# Altium schematic symbol library Miscellaneous.SchLib: 57 symbols
Pins are listed as number, name and electrical type; pins without a type are passive.

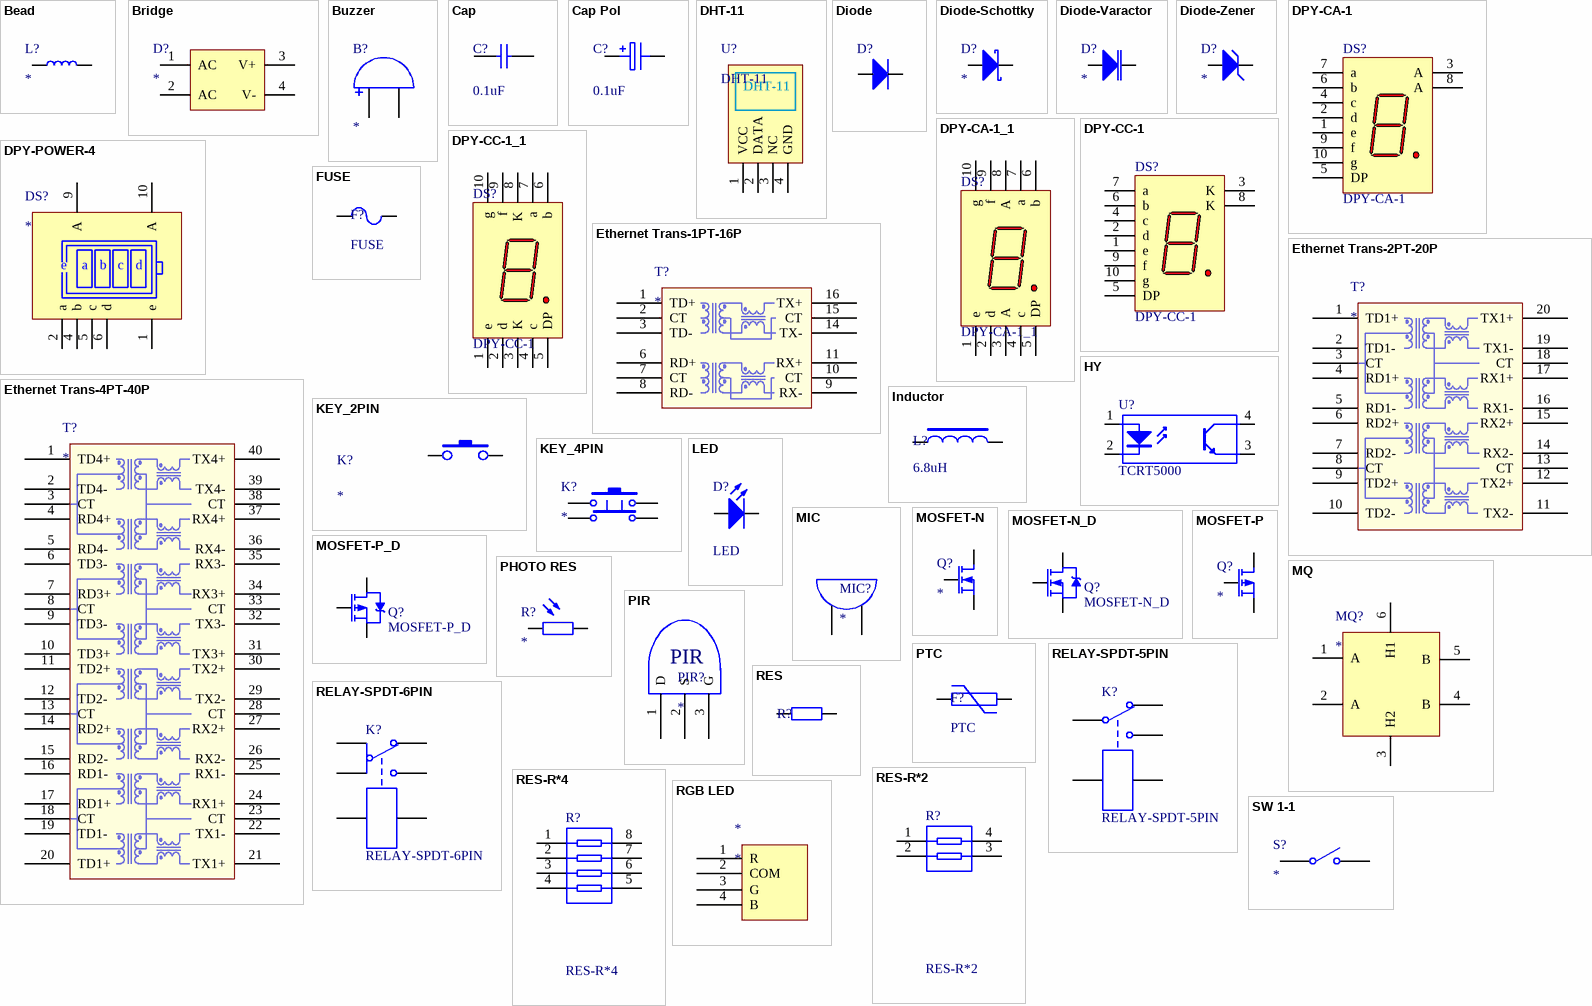
[diagram p0: symbols Bead to SW 1-1]

## Bead
designator L?
Bead
footprint L0603
footprint L0805
pins: 1, 2

## Bridge
designator D?
rectifier bridge
footprint bridge-BR8 (Bridge Rectifier; 4 Terminals; Body 9.4 x 9.4 mm (typ); Pitch 5.08 mm)
pins: 1 AC, 2 AC, 3 V+, 4 V-

## Buzzer
designator B?
buzzer
footprint BUZZER-6.5-12*9.6-0.8
pins: 1, 2
text: +

## Cap
designator C?, comment 0.1uF
Capacitor; Published: 8-Jun-2000; LatestRevisionDate: 17-Jul-2002; LatestRevisionNote: Re-released for DXP Platform.; PackageReference: RAD-0.3; Publisher: Altium Limited; Value: 0.1uF
footprint C0603
footprint C0805
footprint C1206
footprint C0402
footprint C1210
footprint C0201
footprint C1806
footprint C1808
footprint C1812
footprint C1825
footprint C2010
footprint C2220
footprint C2225
footprint C2512
pins: 1, 2

## Cap Pol
designator C?, comment 0.1uF
Polarized Capacitor; Value: 22uF/25V; Published: 8-Jun-2000; LatestRevisionDate: 17-Jul-2002; LatestRevisionNote: Re-released for DXP Platform.; PackageReference: RB7.6-15; Publisher: Altium Limited
footprint CAP-TA-3216A
footprint CAP-TA-3528b
footprint CAP-TA-6032c
footprint CAP-TA-7343D
footprint CAP-TA-7343E
footprint CAPPR2.0-5X8-0.6
footprint CAPPR2.5-6.3X11-0.5
footprint CAPPR5.0-8.0X11-0.8
footprint CAPPR5.0-10X16-0.8
footprint CAPPR-4.3X4.3-SM
footprint CAPPR-6.6X6.6-SM
footprint CAPPR-10X10-SM
footprint CAPPR2.0-5X11-0.6
footprint CAPPR5.0-10X12.5-0.8
footprint CAPPR5.0-10X20-0.8
pins: 1, 2

## DHT-11
designator U?
footprint DHT-11
pins: 1 VCC, 2 DATA, 3 NC, 4 GND

## Diode
designator D?
Diode
footprint DIODE-0.4 (Diode, Thru-Hole; 2 Leads; 0.4 in Pin Spacing)
footprint DIODE-SMA (DO-214AC)
footprint DIODE-SMB
footprint DIODE-SMC
footprint DIODE-LL34
footprint SOD-123
footprint SOD-323
pins: 1, 2

## Diode-Schottky
designator D?
Schottky Diode
footprint DIODE-SMA (DO-214AC)
footprint DIODE-SMB
footprint DIODE-SMC
footprint SOD-123
pins: 1 A, 2 K

## Diode-Varactor
designator D?
pins: 1 ANODE, 2 CATHODE

## Diode-Zener
designator D?
footprint SOT-23-3; pin to pad 2>3
pins: 1 ANODE, 2 CATHODE

## DPY-CA-1
designator DS?
MinimumIntensity: 354 ucd; Note: IF = 5 mA; Colour: Orange; Note: Pins 1 and 6 are redundant Anodes.; Published: 8-Jun-2000; LatestRevisionDate: 17-Dec-2003; LatestRevisionNote: Schematic revised, PCB Footprint replaced.; DatasheetVersion: 19-Feb-2002; PackageVersion: 11-Feb-2002; PackageReference: A; Publisher: Altium Limited; PackageDescription: LED, 7-Segment Display, 7.62 mm, RHD; 10 Leads; Row Space 5.08 mm; Pitch 2.54 mm; ComponentLink1Description: Manufacturer Link; ComponentLink1URL: http://www.agilent.com/
pins: 1 e "Cathode", 2 d "Cathode", 3 A "Anode", 4 c "Cathode", 5 DP "Cathode", 6 b "Cathode", 7 a "Cathode", 8 A "Anode", 9 f "Cathode", 10 g "Cathode"

## DPY-CA-1_1
designator DS?
MinimumIntensity: 354 ucd; Note: IF = 5 mA; Colour: Orange; Note: Pins 1 and 6 are redundant Cathodes.; Published: 8-Jun-2000; LatestRevisionDate: 17-Dec-2003; LatestRevisionNote: Schematic revised, PCB Footprint replaced.; DatasheetVersion: 19-Feb-2002; PackageVersion: 11-Feb-2002; PackageReference: A; Publisher: Altium Limited; PackageDescription: LED, 7-Segment Display, 7.62 mm, RHD; 10 Leads; Row Space 5.08 mm; Pitch 2.54 mm; ComponentLink1Description: Manufacturer Link; ComponentLink1URL: http://www.agilent.com/
footprint DPY-1.0
pins: 1 e, 2 d, 3 A, 4 c, 5 DP, 6 b, 7 a, 8 A, 9 f, 10 g

## DPY-CC-1
designator DS?
MinimumIntensity: 354 ucd; Note: IF = 5 mA; Colour: Orange; Note: Pins 1 and 6 are redundant Cathodes.; Published: 8-Jun-2000; LatestRevisionDate: 17-Dec-2003; LatestRevisionNote: Schematic revised, PCB Footprint replaced.; DatasheetVersion: 19-Feb-2002; PackageVersion: 11-Feb-2002; PackageReference: A; Publisher: Altium Limited; PackageDescription: LED, 7-Segment Display, 7.62 mm, RHD; 10 Leads; Row Space 5.08 mm; Pitch 2.54 mm; ComponentLink1Description: Manufacturer Link; ComponentLink1URL: http://www.agilent.com/
pins: 1 e "Anode", 2 d "Anode", 3 K "Cathode", 4 c "Anode", 5 DP "Anode", 6 b "Anode", 7 a "Anode", 8 K "Cathode", 9 f "Anode", 10 g "Anode"

## DPY-CC-1_1
designator DS?, comment DPY-CC-1
MinimumIntensity: 354 ucd; Note: IF = 5 mA; Colour: Orange; Note: Pins 1 and 6 are redundant Cathodes.; Published: 8-Jun-2000; LatestRevisionDate: 17-Dec-2003; LatestRevisionNote: Schematic revised, PCB Footprint replaced.; DatasheetVersion: 19-Feb-2002; PackageVersion: 11-Feb-2002; PackageReference: A; Publisher: Altium Limited; PackageDescription: LED, 7-Segment Display, 7.62 mm, RHD; 10 Leads; Row Space 5.08 mm; Pitch 2.54 mm; ComponentLink1Description: Manufacturer Link; ComponentLink1URL: http://www.agilent.com/
footprint DPY-1.0
pins: 1 e, 2 d, 3 K, 4 c, 5 DP, 6 b, 7 a, 8 K, 9 f, 10 g

## DPY-POWER-4
designator DS?
footprint DPY-POWER-4
pins: 1 e, 2 a, 4 b, 5 c, 6 d, 9 A, 10 A

## Ethernet Trans-1PT-16P
designator T?
footprint NET-TRANS_SMD-16_7*12.7*1.27P
footprint NET-TRANS_DIP-16_10*20.3*2.54P
pins: 1 TD+, 2 CT, 3 TD-, 4 NC hidden, 5 NC hidden, 6 RD+, 7 CT, 8 RD-, 9 RX-, 10 CT, 11 RX+, 12 NC hidden, 13 NC hidden, 14 TX-, 15 CT, 16 TX+

## Ethernet Trans-2PT-20P
designator T?
footprint NET-TRANS_DIP-20_10*25.5*2.54P
pins: 1 TD1+, 2 TD1-, 3 CT, 4 RD1+, 5 RD1-, 6 RD2+, 7 RD2-, 8 CT, 9 TD2+, 10 TD2-, 11 TX2-, 12 TX2+, 13 CT, 14 RX2-, 15 RX2+, 16 RX1-, 17 RX1+, 18 CT, 19 TX1-, 20 TX1+

## Ethernet Trans-4PT-40P
designator T?
pins: 1 TD4+, 2 TD4-, 3 CT, 4 RD4+, 5 RD4-, 6 TD3-, 7 RD3+, 8 CT, 9 TD3-, 10 TD3+, 11 TD2+, 12 TD2-, 13 CT, 14 RD2+, 15 RD2-, 16 RD1-, 17 RD1+, 18 CT, 19 TD1-, 20 TD1+, 21 TX1+, 22 TX1-, 23 CT, 24 RX1+, 25 RX1-, 26 RX2-, 27 RX2+, 28 CT, 29 TX2-, 30 TX2+, 31 TX3+, 32 TX3-, 33 CT, 34 RX3+, 35 RX3-, 36 RX4-, 37 RX4+, 38 CT, 39 TX4-, 40 TX4+

## FUSE
designator F?
footprint F1812
pins: 1, 2

## HY
designator U?, comment TCRT5000
Infrared sensor; Published: 24-Mar-1999; LatestRevisionDate: 04-Mar-2005; LatestRevisionNote: Sch pins 3 & 4 Swapped.; DatasheetVersion: Nov-2003; PackageReference: DIP-4; Publisher: Altium Limited
pins: 1 A "Anode", 2 K "Cathode", 3 E "Emitter", 4 C "Collector"

## Inductor
designator L?, comment 6.8uH
Inductor; Code_IEC: 1005; Published: 8-Jun-2000; LatestRevisionDate: 17-Jul-2002; LatestRevisionNote: Re-released for DXP Platform.; PackageReference: 0402-A; Publisher: Altium Limited; Code_JEITA: 0402; Value: 6.8uH
footprint L3030-P
footprint L5050-P
footprint L-CD54
footprint L0402
footprint L4018 (4.0*4.0*1.8)
footprint L-CDRH127 (12*12*7.8mm)
footprint L11*10MM-SMD (Inductor,10uH 8A)
footprint L0201
footprint L0402
footprint L0603
footprint L0805
footprint L1206
footprint L1806
footprint L1808
footprint L1812
footprint L1825
footprint L2010
footprint L2220
footprint L2512
pins: 1, 2

## KEY_2PIN
designator K?
KEY_2PIN
footprint KEY-3*4-SM
footprint KEY-3*6-SM
footprint KEY-6*6-W
pins: 1, 2

## KEY_4PIN
designator K?
KEY_4PIN
footprint KEY-4*4*1.5-SM
footprint KEY-6*6
footprint KEY-6*6-SM
footprint KEY-12*12
pins: 1 COMMON1, 2 NO1, 3 COMMON2, 4 NO2

## LED
designator D?
Published: 8-Jun-2000; LatestRevisionDate: 08-Jul-2005; LatestRevisionNote: Mech Layer 1 removed.; PackageReference: LED-0; Publisher: Altium Limited
footprint LED0603-BLUE
footprint LED0603-RED
footprint LED-5MM
footprint LED-3MM-GRE
footprint LED-3MM-RED
footprint LED0402
pins: 1 A, 2 K

## MIC
designator MIC?
footprint MIC-9.7*6.5
pins: 1, 2

## MOSFET-N
designator Q?
MOSFET-N
pins: D, G, S

## MOSFET-N_D
designator Q?
N-Channel Power MOSFET; Note: Pin 2 is electrically connected to pin 4.; Published: 8-Jun-2000; LatestRevisionDate: 17-Jul-2002; LatestRevisionNote: Re-released for DXP Platform.; DatasheetVersion: PD-9.814; PackageVersion: Feb-1997; PackageReference: TO-220AB; Publisher: Altium Limited; PackageDescription: TO, Thru-Hole, Vertical, Heatsink Mounted; 3 In-Line Leads; Pitch 2.54 mm; ComponentLink1Description: Manufacturer Link; ComponentLink1URL: http://www.irf.com/
footprint SOT-23-3; pin to pad D>3 G>1 S>2
footprint PowerPAK-SO-8; pin to pad D>5 G>4 S>1
footprint PG-TSDSON-8; pin to pad D>5 G>4 S>1
footprint PG-TDSON-8; pin to pad D>5 G>4 S>1
pins: D, G, S

## MOSFET-P
designator Q?
MOSFET-P
pins: D, G, S

## MOSFET-P_D
designator Q?
P-Channel Power MOSFET; Note: Pin 4 not drawn and electrically connected to Pin 2.; Published: 8-Jun-2000; LatestRevisionDate: 17-Jul-2002; LatestRevisionNote: Re-released for DXP Platform.; DatasheetVersion: PD-9.390D; PackageVersion: Feb-1997; PackageReference: TO-220AB; Publisher: Altium Limited; PackageDescription: TO, Thru-Hole, Vertical, Heatsink Mounted; 3 In-Line Leads; Pitch 2.54 mm; ComponentLink1Description: Manufacturer Link; ComponentLink1URL: http://www.irf.com/
pins: D, G, S

## MQ
designator MQ?
footprint MQ
pins: 1 A, 2 A, 3 H2, 4 B, 5 B, 6 H1

## PHOTO RES
designator R?
footprint PHOTO RES
pins: 1, 2

## PIR
designator PIR?
footprint PIR
pins: 1 D, 2 S, 3 G

## PTC
designator F?
Polyer Positive Temperature Coefficent
footprint F1812
pins: 1, 2

## RELAY-SPDT-5PIN
designator K?
Single-Pole Dual-Throw Relay; Published: 24-Mar-1999; LatestRevisionDate: 17-Jul-2002; LatestRevisionNote: Re-released for DXP Platform.; PackageReference: MODULE5B; Publisher: Altium Limited
footprint RELAY-5PIN-19.5*15.5*16
footprint RELAY-5PIN-PE014-20*10*10
pins: 1, 2 COM, 3, 4 OFF, 5 on

## RELAY-SPDT-6PIN
designator K?
Single-Pole Dual-Throw Relay; Published: 24-Mar-1999; LatestRevisionDate: 17-Jul-2002; LatestRevisionNote: Re-released for DXP Platform.; PackageReference: MODULE5B; Publisher: Altium Limited
footprint RELAY-6PIN-15.5*10.5*11.8
pins: 1 COM, 2, 3 on, 4 OFF, 5, 6 COM

## RES
designator R?
RES; Value: 29.4K; Published: 8-Jun-2000; LatestRevisionDate: 17-Jul-2002; LatestRevisionNote: Re-released for DXP Platform.; PackageReference: AXIAL-0.4; Publisher: Altium Limited
footprint R0603
footprint R0805
footprint R1206
footprint AXIAL-0.4 (Axial Device, Thru-Hole; 2 Leads; 0.4 in Pin Spacing)
footprint AXIAL-0.5 (Axial Device, Thru-Hole; 2 Leads; 0.5 in Pin Spacing)
footprint R0402
footprint R0201
footprint R1210
footprint R1806
footprint R1808
footprint R1825
footprint R1825
footprint R2010
footprint R2220
footprint R2225
footprint R2512
pins: 1, 2

## RES-R*2
designator R?
Published: 24-Mar-1999; LatestRevisionDate: 29-May-2009; LatestRevisionNote: IPC-7351 Footprint Added.; PackageVersion: Oct-2003; PackageReference: SSOP16; Publisher: Altium Limited; PackageDescription: 16-Pin Plastic Small Outline Package 0.65 mm Pitch; Code_JEDEC: MO-150-AC; Code_IPC: SOP65P780-16
footprint R0603_Rx2
pins: 1, 2, 3, 4

## RES-R*4
designator R?
Published: 24-Mar-1999; LatestRevisionDate: 29-May-2009; LatestRevisionNote: IPC-7351 Footprint Added.; PackageVersion: Oct-2003; PackageReference: SSOP16; Publisher: Altium Limited; PackageDescription: 16-Pin Plastic Small Outline Package 0.65 mm Pitch; Code_JEDEC: MO-150-AC; Code_IPC: SOP65P780-16
footprint R0603_Rx4
pins: 1, 2, 3, 4, 5, 6, 7, 8

## RGB LED
designator *
pins: 1 R, 2 COM, 3 G, 4 B

## SW 1-1
designator S?
switch 1 to 1
footprint SW-SS01_W
footprint ETEN1021
pins: 1 COMMON, 2 NO

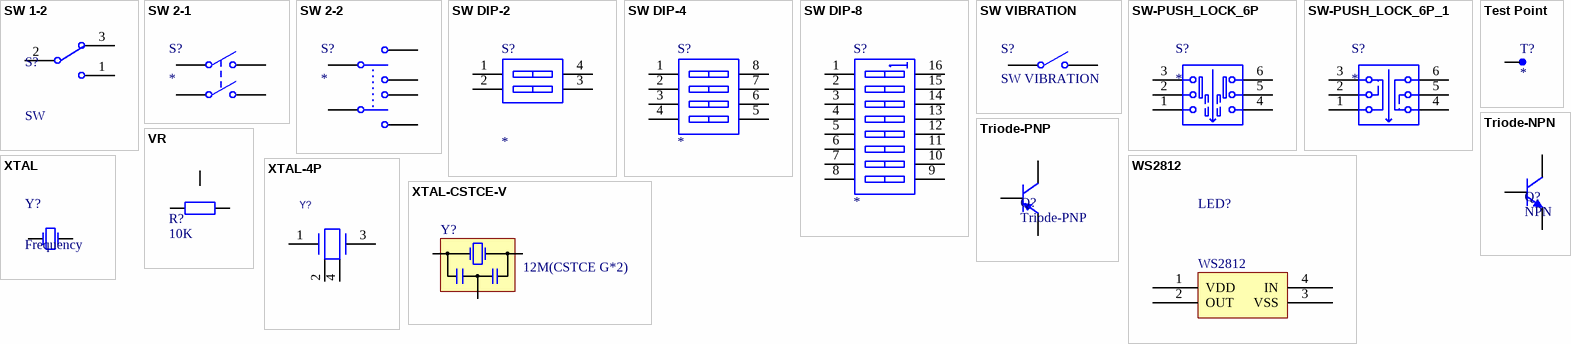
[diagram p1: symbols SW 1-2 to XTAL-CSTCE-V]

## SW 1-2
designator S?, comment SW
switch 1 to 2; Published: 24-Mar-1999; LatestRevisionDate: 17-Dec-2003; LatestRevisionNote: Schematic revised, PCB Footprint replaced.; DatasheetDocument: ##########; Publisher: Altium Limited; ComponentLink1Description: Manufacturer Link; ComponentLink1URL: http://www.apem.com
footprint SWITCH
pins: 1, 2, 3

## SW 2-1
designator S?
switch 2 to 1
pins: 1 COMMON1, 2 NO1, 3 COMMON2, 4 NO2

## SW 2-2
designator S?
switch 2 to 2
pins: 1, 2, 3, 4, 5, 6

## SW DIP-2
designator S?
DIP Switch
footprint SW-DIP-2
pins: 1 A1, 2 A2, 3 B2, 4 B1

## SW DIP-4
designator S?
DIP Switch
footprint SW-DIP-4
pins: 1 A1, 2 A2, 3 A3, 4 A4, 5 B4, 6 B3, 7 B2, 8 B1

## SW DIP-8
designator S?
DIP Switch
pins: 1 A1, 2 A2, 3 A3, 4 A4, 5 A5, 6 A6, 7 A7, 8 A8, 9 B8, 10 B7, 11 B6, 12 B5, 13 B4, 14 B3, 15 B2, 16 B1

## SW VIBRATION
designator S?
vibration switch
footprint SW-VIBRATION
pins: 1 COMMON, 2 NO

## SW-PUSH_LOCK_6P
designator S?
SW-PUSH_LOCK_6P
footprint SW-PUSH_6P_5.8*5.8
pins: 1, 2, 3, 4, 5, 6

## SW-PUSH_LOCK_6P_1
designator S?
SW-PUSH_LOCK_6P
pins: 1, 2, 3, 4, 5, 6

## Test Point
designator T?
Test point
footprint TEST_POINT_PAD
pins: 1 TEST POINT

## Triode-NPN
designator Q?, comment NPN
NPN Bipolar Transistor; Published: 8-Jun-2000; LatestRevisionDate: 17-Jul-2002; LatestRevisionNote: Re-released for DXP Platform.; PackageReference: TO-226; Publisher: Altium Limited; Code_JEDEC: TO-226-AA
footprint SOT-23-3; pin to pad B>1 C>3 E>2
pins: B, C, E

## Triode-PNP
designator Q?
PNP Bipolar Transistor; Published: 8-Jun-2000; LatestRevisionDate: 29-May-2009; LatestRevisionNote: IPC-7351 Footprint Added.; PackageVersion: Aug-1999; PackageReference: SOT-23B; Publisher: Altium Limited; PackageDescription: 3-Pin SOT-23 Package 0.95 mm Pitch, 2.4 mm Lead Span
footprint SOT-23-3; pin to pad B>1 C>3 E>2
footprint TO-92
pins: B, C, E

## VR
designator R?, comment 10K
Potentiometer
footprint VR-3296W (Thru-Hole; 3 Leads)
footprint VR-3362P (Thru-Hole; 3 Leads)
footprint VR-WH06-2 (Thru-Hole; 3 Leads)
footprint VR-WH148
footprint VR-RV09 (Thru-Hole; 3 Leads)
pins: 1, 2, 3

## WS2812
designator LED?
RGB LED
footprint LED5050
pins: 1 VDD, 2 OUT, 3 VSS, 4 IN

## XTAL
designator Y?, comment Frequency
Crystal Oscillator; Published: 8-Jun-2000; Revision: July-2002: Re-released for DXP Platform.; Publisher: Altium Limited
footprint XTAL-2.0*6.0
footprint XTAL-HC49S
footprint XTAL-HC49SMD
pins: 1 OSC1, 2 OSC2

## XTAL-4P
designator Y?
footprint XTAL_SMD_3225_4P
pins: 1 GND, 2 GND, 3 GND, 4 GND

## XTAL-CSTCE-V
designator Y?, comment 12M(CSTCE G*2)
Resonator Oscillator; Published: 8-Jun-2000; Revision: July-2002: Re-released for DXP Platform.; Publisher: Altium Limited
footprint XTAL-SM(CSTCE_V) (muRata's resonator use in UP-RobotServo)
pins: 1 OSC1, 2 GND, 3 OSC2